# Altium footprint library T495D336K016ATE225.PcbLib: 3 footprints
Each footprint in its own frame and in the unit in brackets; x right, y up, seen from the top. Pads: shape width x height; smd on the part's side, far side on the other; paste and mask are expansions set on the pad; w line width, h text height; cw(c..) or ccw(c..) is an arc to the next point about the centre after c.
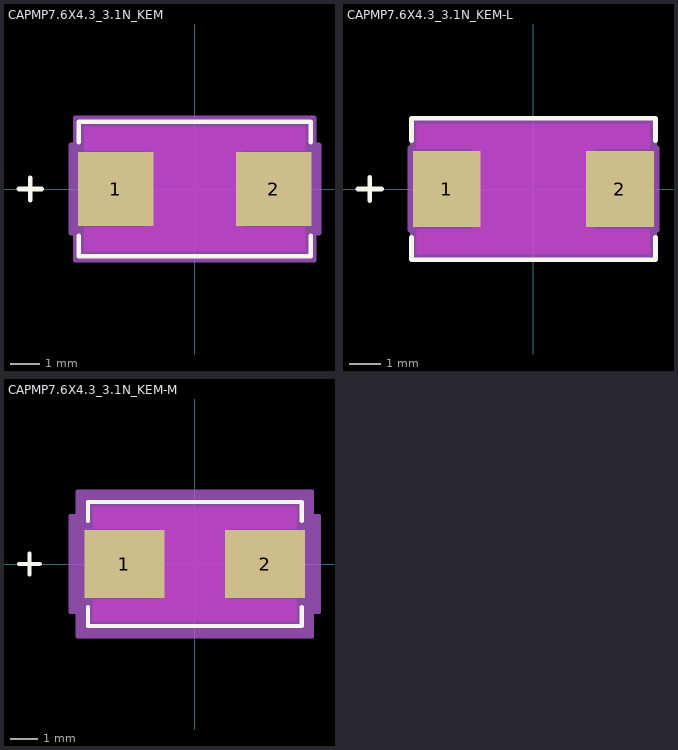
[diagram p0: the footprints below, top view; thin cyan lines are the x and y axes]

## CAPMP7.6X4.3_3.1N_KEM [mm]
pads (2):
  rect 2.56x2.5 smd paste+0 mask+0: 1(-2.672,0) 2(2.672,0)
Top Layer keep-out:
  region: -3.749,-2.099 -3.749,-1.301 3.749,-1.301 3.749,-2.099
  region: -3.749,1.301 -3.749,2.099 3.749,2.099 3.749,1.301
  region: -1.641,-1.301 -1.641,1.301 1.641,1.301 1.641,-1.301
Top Overlay:
  lines w0.152: -5.951,0 -5.189,0 ; -5.57,-0.381 -5.57,0.381 ; -3.927,-1.583 -3.927,-2.277 3.927,-2.277 3.927,-1.583 ; -3.927,1.583 -3.927,2.277 3.927,2.277 3.927,1.583
  text ".Designator" at -3.492,-0.635 h1.27
Keep-Out Layer:
  region: -1.641,-1.301 -1.641,1.301 1.641,1.301 1.641,-1.301
Mechanical 13:
  lines w0.025: -5.951,0 -5.189,0 ; -5.57,-0.381 -5.57,0.381 ; -3.8,-2.15 -3.8,2.15 3.8,2.15 3.8,-2.15 -3.8,-2.15
  text ".Designator" at -3.492,-0.635 h1.27
Mechanical 15:
  region: -4.054,-1.504 -4.206,-1.504 -4.206,1.504 -4.054,1.504 -4.054,2.404 4.054,2.404 4.054,1.504 4.206,1.504 4.206,-1.504 4.054,-1.504 4.054,-2.404 -4.054,-2.404
  lines w0.152: -4.206,-1.504 -4.054,-1.504 -4.054,-2.404 4.054,-2.404 4.054,-1.504 4.206,-1.504 4.206,1.504 4.054,1.504 4.054,2.404 -4.054,2.404 -4.054,1.504 -4.206,1.504 -4.206,-1.504
3D body "CAPMP76X43_31N_KEM.step": height 3.15, standoff 0, extent -3.8,-2.15 3.8,2.15
3D body "CAPMP76X43_31N_KEM.step": height 3.15, standoff 0, extent -3.8,-2.15 3.8,2.15

## CAPMP7.6X4.3_3.1N_KEM-L [mm]
pads (2):
  rect 2.179x2.449 smd paste+0 mask+0: 1(-2.786,0) 2(2.786,0)
Top Layer keep-out:
  region: -1.946,-1.301 -1.946,1.301 1.946,1.301 1.946,-1.301
  region: -3.749,1.301 -3.749,2.099 3.749,2.099 3.749,1.301
  region: -3.749,-2.099 -3.749,-1.301 3.749,-1.301 3.749,-2.099
Top Overlay:
  lines w0.152: -5.646,0 -4.884,0 ; -5.265,-0.381 -5.265,0.381 ; -3.927,-1.553 -3.927,-2.277 3.927,-2.277 3.927,-1.553 ; -3.927,1.553 -3.927,2.277 3.927,2.277 3.927,1.553
  text ".Designator" at -3.492,-0.635 h1.27
Keep-Out Layer:
  region: -1.946,-1.301 -1.946,1.301 1.946,1.301 1.946,-1.301
Mechanical 13:
  lines w0.025: -5.646,0 -4.884,0 ; -5.265,-0.381 -5.265,0.381 ; -3.8,-2.15 3.8,-2.15 3.8,2.15 -3.8,2.15 -3.8,-2.15
  text ".Designator" at -3.492,-0.635 h1.27
Mechanical 15:
  region: -3.902,-1.326 -3.978,-1.326 -3.978,1.326 -3.902,1.326 -3.902,2.252 3.902,2.252 3.902,1.326 3.978,1.326 3.978,-1.326 3.902,-1.326 3.902,-2.252 -3.902,-2.252
  lines w0.152: -3.978,-1.326 -3.978,1.326 -3.902,1.326 -3.902,2.252 3.902,2.252 3.902,1.326 3.978,1.326 3.978,-1.326 3.902,-1.326 3.902,-2.252 -3.902,-2.252 -3.902,-1.326 -3.978,-1.326
3D body: height 0.25, standoff 0, extent 0,0 0.254,0.254

## CAPMP7.6X4.3_3.1N_KEM-M [mm]
pads (2):
  rect 2.941x2.5 smd paste+0 mask+0: 1(-2.583,0) 2(2.583,0)
Top Layer keep-out:
  region: -1.362,-1.301 -1.362,1.301 1.362,1.301 1.362,-1.301
  region: -3.749,1.301 -3.749,2.099 3.749,2.099 3.749,1.301
  region: -3.749,-2.099 -3.749,-1.301 3.749,-1.301 3.749,-2.099
Top Overlay:
  lines w0.152: -6.459,0 -5.697,0 ; -6.078,-0.381 -6.078,0.381 ; -3.927,-1.583 -3.927,-2.277 3.927,-2.277 3.927,-1.583 ; -3.927,1.583 -3.927,2.277 3.927,2.277 3.927,1.583
  text ".Designator" at -3.492,-0.635 h1.27
Keep-Out Layer:
  region: -1.362,-1.301 -1.362,1.301 1.362,1.301 1.362,-1.301
Mechanical 13:
  lines w0.025: -6.459,0 -5.697,0 ; -6.078,-0.381 -6.078,0.381 ; -3.8,-2.15 3.8,-2.15 3.8,2.15 -3.8,2.15 -3.8,-2.15
  text ".Designator" at -3.492,-0.635 h1.27
Mechanical 15:
  region: -4.308,-1.758 -4.562,-1.758 -4.562,1.758 -4.308,1.758 -4.308,2.658 4.308,2.658 4.308,1.758 4.562,1.758 4.562,-1.758 4.308,-1.758 4.308,-2.658 -4.308,-2.658
  lines w0.152: -4.562,-1.758 -4.562,1.758 -4.308,1.758 -4.308,2.658 4.308,2.658 4.308,1.758 4.562,1.758 4.562,-1.758 4.308,-1.758 4.308,-2.658 -4.308,-2.658 -4.308,-1.758 -4.562,-1.758
3D body: height 0.25, standoff 0, extent 0,0 0.254,0.254